# EAGLE library part CON-14P (library Connectors)
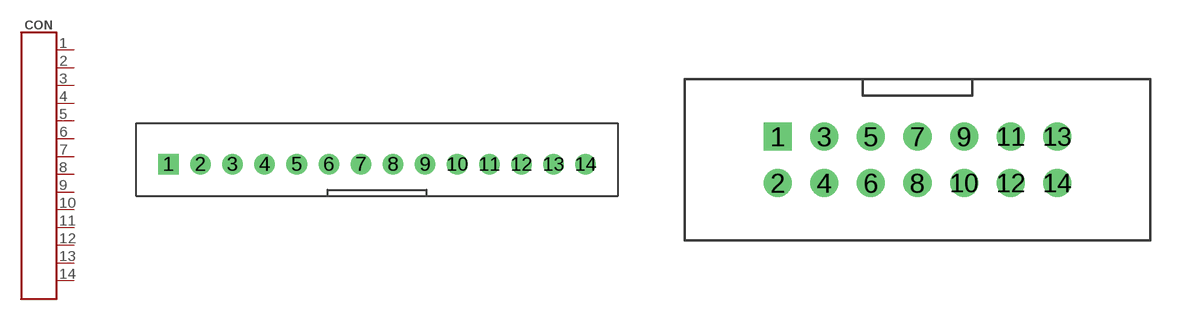
[diagram p11: symbol with the pads of B14B-XASK-1; footprints B14B-XASK-1, DS1013-14S]

Designator prefix CON

## CON-14P-XA (LCSC#: C160312; MANF: JST Sales America; MANF#: B14B-XASK-1(LF)(SN))  [B14B-XASK-1]
1  1
2  2
3  3
4  4
5  5
6  6
7  7
8  8
9  9
10  10
11  11
12  12
13  13
14  14

## CON-14P-IDC (MANF: Connfly electronic; MANF#: DS1013-14S)  [DS1013-14S]
Pads as for B14B-XASK-1

## CON-14P-FDC  [DS1018-14]
Pads as for B14B-XASK-1

## Footprint B14B-XASK-1 (pad centres in mm)
Datasheet <https://datasheet.lcsc.com/lcsc/1811011929_JST-Sales-America-B04B-XASK-1-LF-SN_C264994.pdf>
drill 1 pad 1.6 square: 1 -16.25,0
drill 1 pad 1.6: 2 -13.75,0; 3 -11.25,0; 4 -8.75,0; 5 -6.25,0; 6 -3.75,0; 7 -1.25,0; 8 1.25,0; 9 3.75,0; 10 6.25,0; 11 8.75,0; 12 11.25,0; 13 13.75,0; 14 16.25,0

## Footprint DS1013-14S (pad centres in mm)
Drawing <https://static.chipdip.ru/lib/463/DOC002463525.pdf> 3D model <https://grabcad.com/library/idc-connector-collection-2-54-mm-1>
drill 1.02 square: 1 -7.62,1.27
drill 1.02: 2 -7.62,-1.27; 3 -5.08,1.27; 4 -5.08,-1.27; 5 -2.54,1.27; 6 -2.54,-1.27; 7 0,1.27; 8 0,-1.27; 9 2.54,1.27; 10 2.54,-1.27; 11 5.08,1.27; 12 5.08,-1.27; 13 7.62,1.27; 14 7.62,-1.27

## Footprint DS1018-14 (pad centres in mm)
Drawing <https://static.chipdip.ru/lib/463/DOC002463525.pdf>
drill 1.02 square: 1 -7.62,1.27
drill 1.02: 2 -7.62,-1.27; 3 -5.08,1.27; 4 -5.08,-1.27; 5 -2.54,1.27; 6 -2.54,-1.27; 7 0,1.27; 8 0,-1.27; 9 2.54,1.27; 10 2.54,-1.27; 11 5.08,1.27; 12 5.08,-1.27; 13 7.62,1.27; 14 7.62,-1.27